# Altium footprint library NRS5040T100MMGJ.PcbLib: 1 footprints
Each footprint in its own frame and in the unit in brackets; x right, y up, seen from the top. Pads: shape width x height; smd on the part's side, far side on the other; paste and mask are expansions set on the pad; w line width, h text height; cw(c..) or ccw(c..) is an arc to the next point about the centre after c.
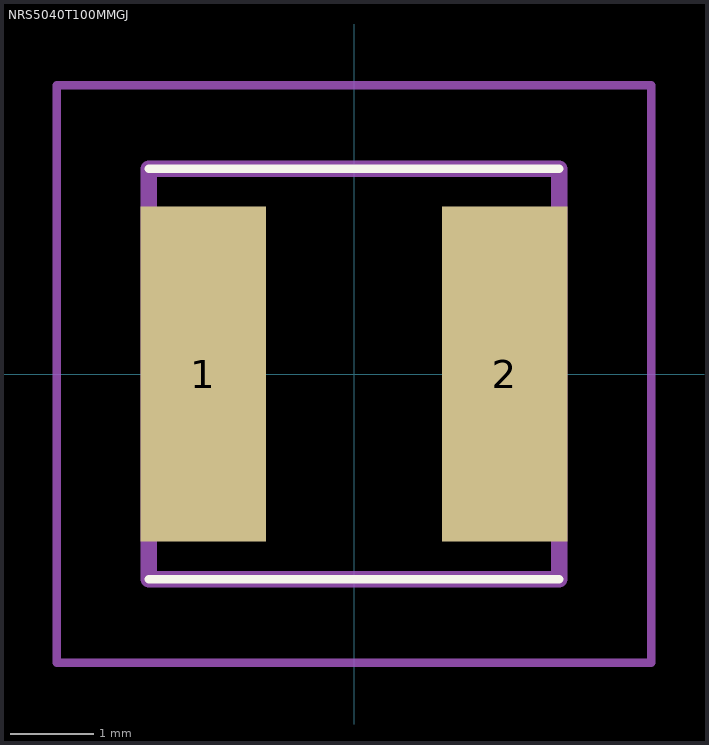
[diagram p0: the footprint, top view; thin cyan lines are the x and y axes]

## NRS5040T100MMGJ [mm]
pads (2):
  rect 1.5x4 smd: 1(-1.8,0) 2(1.8,0)
Top Overlay:
  lines w0.1: -2.45,-2.45 2.45,-2.45 ; -2.45,2.45 2.45,2.45
Mechanical 15:
  lines w0.2: -2.45,-2.45 2.45,-2.45 2.45,2.45 -2.45,2.45 -2.45,-2.45
Mechanical 20:
  lines w0.1: -3.55,-3.45 3.55,-3.45 3.55,3.45 -3.55,3.45 -3.55,-3.45